# Altium schematic symbol library Rising Clamp System WR-TBL_7.50 mm.SchLib: 18 symbols
Pins are listed as number, name and electrical type; pins without a type are passive.

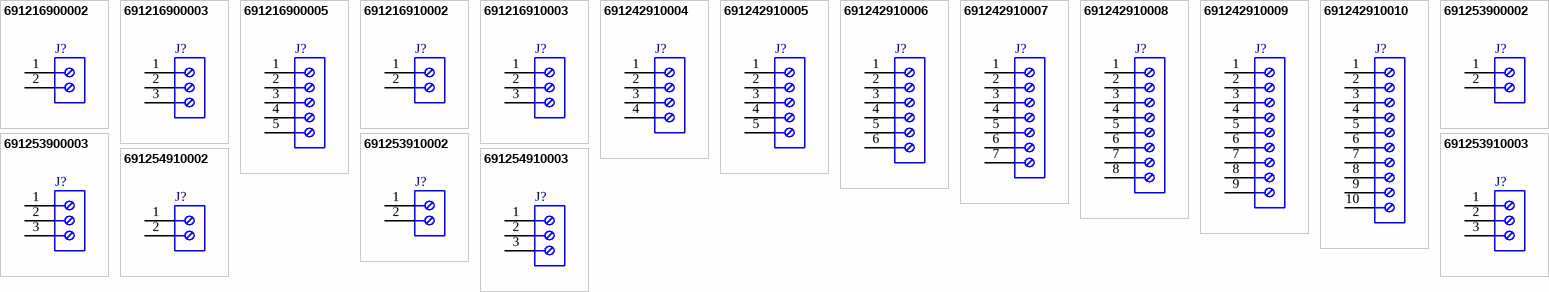
[diagram p0: symbols 691216900002 to 691254910003]

## 691216900002
designator J?
Serie 2169 - 7.50 mm Vertical Entry with Rising Cage Clamp WR-TBL, 2 pin; Part Number: 691216900002; Pin Number: 2; Pitch: 7.50 mm; ComponentLink1Description: Manufacturer; ComponentLink1URL: http://www.we-online.de; ComponentLink2Description: Datasheet; ComponentLink2URL: http://katalog.we-online.de/em/datasheet/691216900002.pdf; Published Date: June 2018; Publisher: Wurth Elektronik; Operating Temperature: -30 to 120 degC; Mounting Technology: THT; Packaging: Box
footprint 691216900002
pins: 1, 2

## 691216900003
designator J?
Serie 2169 - 7.50 mm Vertical Entry with Rising Cage Clamp WR-TBL, 3 pin; Part Number: 691216900003; Pin Number: 3; Pitch: 7.50 mm; ComponentLink1Description: Manufacturer; ComponentLink1URL: http://www.we-online.de; ComponentLink2Description: Datasheet; ComponentLink2URL: http://katalog.we-online.de/em/datasheet/691216900003.pdf; Published Date: June 2018; Publisher: Wurth Elektronik; Operating Temperature: -30 to 120 degC; Mounting Technology: THT; Packaging: Box
footprint 691216900003
pins: 1, 2, 3

## 691216900005
designator J?
Serie 2169 - 7.50 mm Vertical Entry with Rising Cage Clamp WR-TBL, 5 pin; Part Number: 691216900005; Pin Number: 5; Pitch: 7.50 mm; ComponentLink1Description: Manufacturer; ComponentLink1URL: http://www.we-online.de; ComponentLink2Description: Datasheet; ComponentLink2URL: http://katalog.we-online.de/em/datasheet/691216900005.pdf; Published Date: June 2018; Publisher: Wurth Elektronik; Operating Temperature: -30 to 120 degC; Mounting Technology: THT; Packaging: Box
footprint 691216900005
pins: 1, 2, 3, 4, 5

## 691216910002
designator J?
Serie 2169 - 7.50 mm Horizontal Entry Modular with Rising Cage Clamp WR-TBL, 2 pin; Part Number: 691216910002; Pin Number: 2; Pitch: 7.50 mm; ComponentLink1Description: Manufacturer; ComponentLink1URL: http://www.we-online.de; ComponentLink2Description: Datasheet; ComponentLink2URL: http://katalog.we-online.de/em/datasheet/6912169100XX.pdf; Published Date: June 2018; Publisher: Wurth Elektronik; Operating Temperature: -30 to 120 degC; Mounting Technology: THT; Packaging: Box
footprint 691216910002
pins: 1, 2

## 691216910003
designator J?
Serie 2169 - 7.50 mm Horizontal Entry Modular with Rising Cage Clamp WR-TBL, 3 pin; Part Number: 691216910003; Pin Number: 3; Pitch: 7.50 mm; ComponentLink1Description: Manufacturer; ComponentLink1URL: http://www.we-online.de; ComponentLink2Description: Datasheet; ComponentLink2URL: http://katalog.we-online.de/em/datasheet/6912169100XX.pdf; Published Date: June 2018; Publisher: Wurth Elektronik; Operating Temperature: -30 to 120 degC; Mounting Technology: THT; Packaging: Box
footprint 691216910003
pins: 1, 2, 3

## 691242910004
designator J?
Serie 2429 - 7.50 mm Horizontal Entry Modular with Rising Cage Clamp WR-TBL, 4 pin; Part Number: 691242910004; Pin Number: 4; Pitch: 7.50 mm; ComponentLink1Description: Manufacturer; ComponentLink1URL: http://www.we-online.de; ComponentLink2Description: Datasheet; ComponentLink2URL: http://katalog.we-online.de/em/datasheet/6912429100XX.pdf; Published Date: June 2018; Publisher: Wurth Elektronik; Operating Temperature: -30 to 120 degC; Mounting Technology: THT; Packaging: Box
footprint 691242910004
pins: 1, 2, 3, 4

## 691242910005
designator J?
Serie 2429 - 7.50 mm Horizontal Entry Modular with Rising Cage Clamp WR-TBL, 5 pin; Part Number: 691242910005; Pin Number: 5; Pitch: 7.50 mm; ComponentLink1Description: Manufacturer; ComponentLink1URL: http://www.we-online.de; ComponentLink2Description: Datasheet; ComponentLink2URL: http://katalog.we-online.de/em/datasheet/6912429100XX.pdf; Published Date: June 2018; Publisher: Wurth Elektronik; Operating Temperature: -30 to 120 degC; Mounting Technology: THT; Packaging: Box
footprint 691242910005
pins: 1, 2, 3, 4, 5

## 691242910006
designator J?
Serie 2429 - 7.50 mm Horizontal Entry Modular with Rising Cage Clamp WR-TBL, 6 pin; Part Number: 691242910006; Pin Number: 6; Pitch: 7.50 mm; ComponentLink1Description: Manufacturer; ComponentLink1URL: http://www.we-online.de; ComponentLink2Description: Datasheet; ComponentLink2URL: http://katalog.we-online.de/em/datasheet/6912429100XX.pdf; Published Date: June 2018; Publisher: Wurth Elektronik; Operating Temperature: -30 to 120 degC; Mounting Technology: THT; Packaging: Box
footprint 691242910006
pins: 1, 2, 3, 4, 5, 6

## 691242910007
designator J?
Serie 2429 - 7.50 mm Horizontal Entry Modular with Rising Cage Clamp WR-TBL, 7 pin; Part Number: 691242910007; Pin Number: 7; Pitch: 7.50 mm; ComponentLink1Description: Manufacturer; ComponentLink1URL: http://www.we-online.de; ComponentLink2Description: Datasheet; ComponentLink2URL: http://katalog.we-online.de/em/datasheet/6912429100XX.pdf; Published Date: June 2018; Publisher: Wurth Elektronik; Operating Temperature: -30 to 120 degC; Mounting Technology: THT; Packaging: Box
footprint 691242910007
pins: 1, 2, 3, 4, 5, 6, 7

## 691242910008
designator J?
Serie 2429 - 7.50 mm Horizontal Entry Modular with Rising Cage Clamp WR-TBL, 8 pin; Part Number: 691242910008; Pin Number: 8; Pitch: 7.50 mm; ComponentLink1Description: Manufacturer; ComponentLink1URL: http://www.we-online.de; ComponentLink2Description: Datasheet; ComponentLink2URL: http://katalog.we-online.de/em/datasheet/6912429100XX.pdf; Published Date: June 2018; Publisher: Wurth Elektronik; Operating Temperature: -30 to 120 degC; Mounting Technology: THT; Packaging: Box
footprint 691242910008
pins: 1, 2, 3, 4, 5, 6, 7, 8

## 691242910009
designator J?
Serie 2429 - 7.50 mm Horizontal Entry Modular with Rising Cage Clamp WR-TBL, 9 pin; Part Number: 691242910009; Pin Number: 9; Pitch: 7.50 mm; ComponentLink1Description: Manufacturer; ComponentLink1URL: http://www.we-online.de; ComponentLink2Description: Datasheet; ComponentLink2URL: http://katalog.we-online.de/em/datasheet/6912429100XX.pdf; Published Date: June 2018; Publisher: Wurth Elektronik; Operating Temperature: -30 to 120 degC; Mounting Technology: THT; Packaging: Box
footprint 691242910009
pins: 1, 2, 3, 4, 5, 6, 7, 8, 9

## 691242910010
designator J?
Serie 2429 - 7.50 mm Horizontal Entry Modular with Rising Cage Clamp WR-TBL, 10 pin; Part Number: 691242910010; Pin Number: 10; Pitch: 7.50 mm; ComponentLink1Description: Manufacturer; ComponentLink1URL: http://www.we-online.de; ComponentLink2Description: Datasheet; ComponentLink2URL: http://katalog.we-online.de/em/datasheet/6912429100XX.pdf; Published Date: June 2018; Publisher: Wurth Elektronik; Operating Temperature: -30 to 120 degC; Mounting Technology: THT; Packaging: Box
footprint 691242910010
pins: 1, 2, 3, 4, 5, 6, 7, 8, 9, 10

## 691253900002
designator J?
Serie 2539 - 7.50 mm Vertical Entry Modular with Rising Cage Clamp WR-TBL, 2 pin; Part Number: 691253900002; Pin Number: 2; Pitch: 7.50 mm; ComponentLink1Description: Manufacturer; ComponentLink1URL: http://www.we-online.de; ComponentLink2Description: Datasheet; ComponentLink2URL: http://katalog.we-online.de/em/datasheet/6912539000XX.pdf; Published Date: June 2018; Publisher: Wurth Elektronik; Operating Temperature: -30 to 120 degC; Mounting Technology: THT; Packaging: Box
footprint 691253900002
pins: 1, 2

## 691253900003
designator J?
Serie 2539 - 7.50 mm Vertical Entry Modular with Rising Cage Clamp WR-TBL, 3 pin; Part Number: 691253900003; Pin Number: 3; Pitch: 7.50 mm; ComponentLink1Description: Manufacturer; ComponentLink1URL: http://www.we-online.de; ComponentLink2Description: Datasheet; ComponentLink2URL: http://katalog.we-online.de/em/datasheet/6912539000XX.pdf; Published Date: June 2018; Publisher: Wurth Elektronik; Operating Temperature: -30 to 120 degC; Mounting Technology: THT; Packaging: Box
footprint 691253900003
pins: 1, 2, 3

## 691253910002
designator J?
Serie 2539 - 7.50 mm Horizontal Entry Modular with Rising Cage Clamp WR-TBL, 2 pin; Part Number: 691253910002; Pin Number: 2; Pitch: 7.50 mm; ComponentLink1Description: Manufacturer; ComponentLink1URL: http://www.we-online.de; ComponentLink2Description: Datasheet; ComponentLink2URL: http://katalog.we-online.de/em/datasheet/6912539100XX.pdf; Published Date: June 2018; Publisher: Wurth Elektronik; Operating Temperature: -30 to 120 degC; Mounting Technology: THT; Packaging: Box
footprint 691253910002
pins: 1, 2

## 691253910003
designator J?
Serie 2539 - 7.50 mm Horizontal Entry Modular with Rising Cage Clamp WR-TBL, 3 pin; Part Number: 691253910003; Pin Number: 3; Pitch: 7.50 mm; ComponentLink1Description: Manufacturer; ComponentLink1URL: http://www.we-online.de; ComponentLink2Description: Datasheet; ComponentLink2URL: http://katalog.we-online.de/em/datasheet/6912539100XX.pdf; Published Date: June 2018; Publisher: Wurth Elektronik; Operating Temperature: -30 to 120 degC; Mounting Technology: THT; Packaging: Box
footprint 691253910003
pins: 1, 2, 3

## 691254910002
designator J?
Serie 2549 - 7.50 mm Horizontal Entry with Rising Cage Clamp WR-TBL, 2 pin; Part Number: 691254910002; Pin Number: 2; Pitch: 7.50 mm; ComponentLink1Description: Manufacturer; ComponentLink1URL: http://www.we-online.de; ComponentLink2Description: Datasheet; ComponentLink2URL: http://katalog.we-online.de/em/datasheet/6912549100xx.pdf; Published Date: June 2018; Publisher: Wurth Elektronik; Operating Temperature: -30 to 120 degC; Mounting Technology: THT; Packaging: Box
footprint 691254910002
pins: 1, 2

## 691254910003
designator J?
Serie 2549 - 7.50 mm Horizontal Entry with Rising Cage Clamp WR-TBL, 3 pin; Part Number: 691254910003; Pin Number: 3; Pitch: 7.50 mm; ComponentLink1Description: Manufacturer; ComponentLink1URL: http://www.we-online.de; ComponentLink2Description: Datasheet; ComponentLink2URL: http://katalog.we-online.de/em/datasheet/6912549100xx.pdf; Published Date: June 2018; Publisher: Wurth Elektronik; Operating Temperature: -30 to 120 degC; Mounting Technology: THT; Packaging: Box
footprint 691254910003
pins: 1, 2, 3